# EAGLE library part VIPER12 (library st-microelectronics-viper12_22)
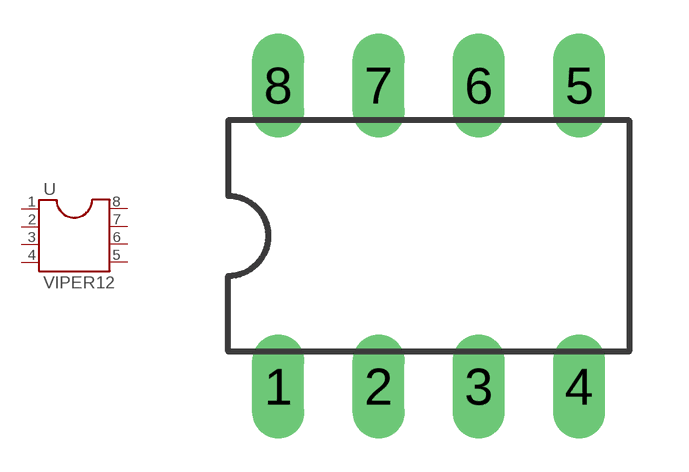
[diagram p0: symbol with the pads of DIL8; footprint DIL8]

Designator prefix -

## VIPER12  [DIL8]
1  S1  pas
2  S2  pas
3  FB  pas
4  VDD  pas
5  D1  pas
6  D2  pas
7  D3  pas
8  D4  pas

## Footprint DIL8 (pad centres in mm)
drill 0.813 long: 1 -3.81,-3.81; 2 -1.27,-3.81; 3 1.27,-3.81; 4 3.81,-3.81; 5 3.81,3.81; 6 1.27,3.81; 7 -1.27,3.81; 8 -3.81,3.81